# Altium footprint library PE42420F-Z.PcbLib: 1 footprints
Each footprint in its own frame and in the unit in brackets; x right, y up, seen from the top. Pads: shape width x height; smd on the part's side, far side on the other; paste and mask are expansions set on the pad; w line width, h text height; cw(c..) or ccw(c..) is an arc to the next point about the centre after c.
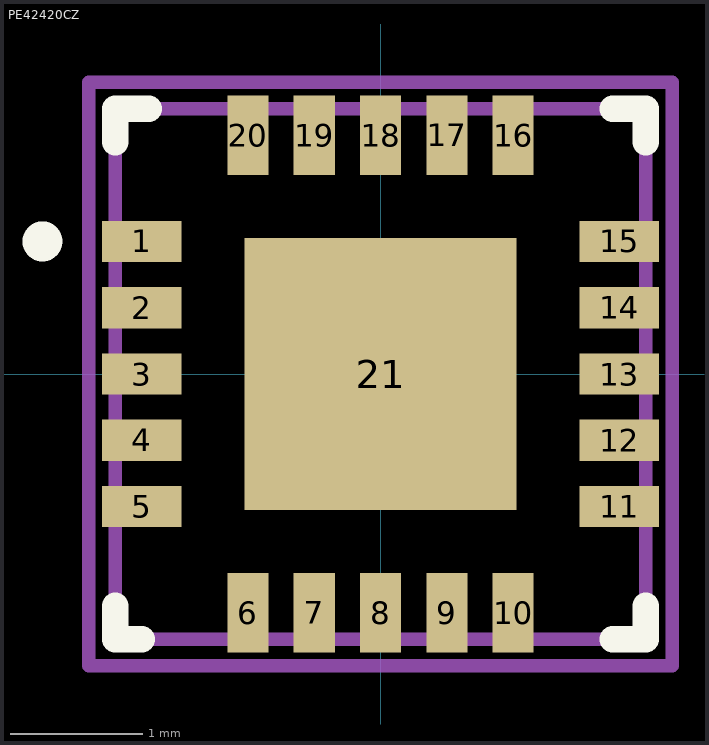
[diagram p0: the footprint, top view; thin cyan lines are the x and y axes]

## PE42420CZ [mm]
pads (21):
  rect 0.6x0.31 smd mask+0.05: 1(-1.8,1) 2(-1.8,0.5) 3(-1.8,0) 4(-1.8,-0.5) 5(-1.8,-1) 11(1.8,-1) 12(1.8,-0.5) 13(1.8,0) 14(1.8,0.5) 15(1.8,1)
  rect 0.31x0.6 smd mask+0.05: 6(-1,-1.8) 7(-0.5,-1.8) 8(0,-1.8) 9(0.5,-1.8) 10(1,-1.8) 16(1,1.8) 17(0.5,1.8) 18(0,1.8) 19(-0.5,1.8) 20(-1,1.8)
  rect 2.05x2.05 smd: 21(0,0)
Top Overlay:
  lines w0.2: -2.6,1 ccw(c-2.55,1) -2.5,1 ; -2.6,1 cw(c-2.55,1) -2.5,1 ; -2.6,1 ccw(c-2.55,1) -2.5,1 ; -2,-2 -2,-1.75 -2,-2 ; -2,-2 -1.8,-2 -2,-2 ; -2,2 -1.75,2 -2,2 ; -2,2 -2,1.75 -2,2 ; 2,-2 1.75,-2 2,-2 ; 2,-2 2,-1.75 2,-2 ; 2,2 1.75,2 2,2 ; 2,2 2,1.75 2,2
Mechanical 13:
  lines w0.1: -2,-2 2,-2 2,2 -2,2 -2,-2
Mechanical 15:
  lines w0.1: -2.2,-2.2 2.2,-2.2 2.2,2.2 -2.2,2.2 -2.2,-2.2
3D body "PE42420C-Z.stp": height 1.11, standoff 0, extent -2,-2 2,2